# Altium footprint library panasonic.PcbLib: 22 footprints (part 2 of 2)
Each footprint in its own frame and in the unit in brackets; x right, y up, seen from the top. Pads: shape width x height; smd on the part's side, far side on the other; paste and mask are expansions set on the pad; w line width, h text height; cw(c..) or ccw(c..) is an arc to the next point about the centre after c.
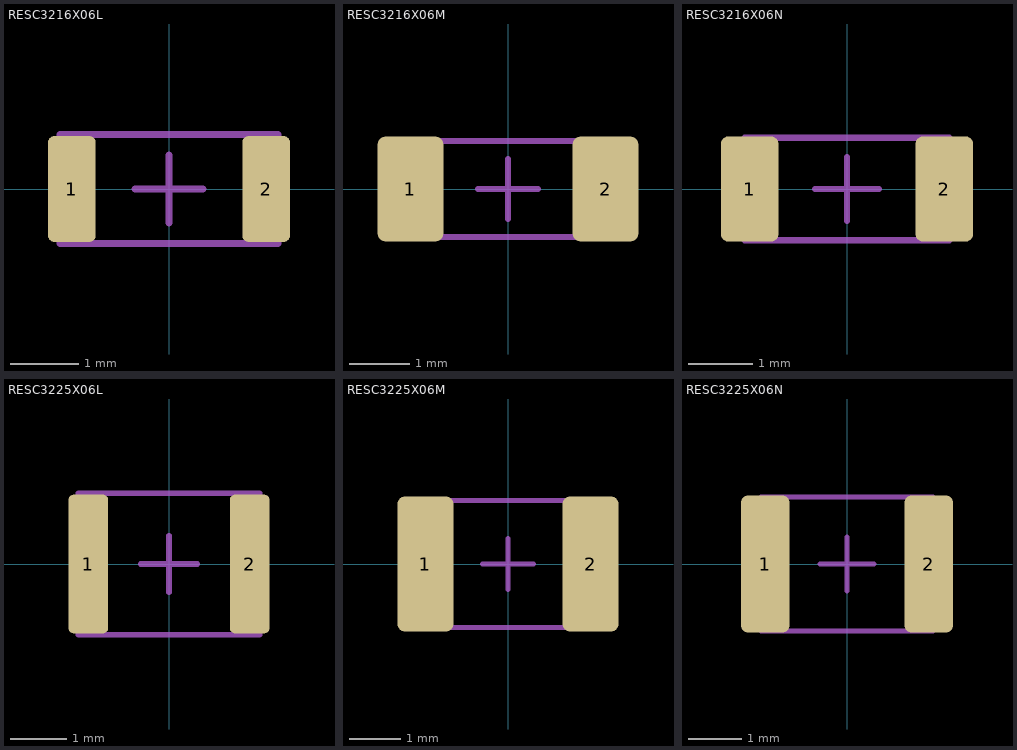
[diagram p1: the footprints below, top view; thin cyan lines are the x and y axes]

## RESC3216X06L [mm] "Chip Resistor, 2-Leads, Body 3.20x1.60mm, IPC High Density"
height 0.6
pads (2):
  rrect25% 0.7x1.55 smd mask+0.05: 1(-1.425,0) 2(1.425,0)
Mechanical 15:
  lines w0.1: -0.5,0 0.5,0 ; 0,-0.5 0,0.5 ; -1.6,-0.8 1.6,-0.8 1.6,0.8 -1.6,0.8 -1.6,-0.8
3D body "RESC3216X06L.step": height 0.6, standoff 0, extent -1.6,-0.8 1.6,0.8

## RESC3216X06M [mm] "Chip Resistor, 2-Leads, Body 3.20x1.60mm, IPC Low Density"
height 0.6
pads (2):
  rrect25% 1.1x1.75 smd mask+0.05: 1(-1.625,0) 2(1.625,0)
Mechanical 15:
  lines w0.1: -0.5,0 0.5,0 ; 0,-0.5 0,0.5 ; -1.6,-0.8 1.6,-0.8 1.6,0.8 -1.6,0.8 -1.6,-0.8
3D body "RESC3216X06M.step": height 0.6, standoff 0, extent -1.6,-0.8 1.6,0.8

## RESC3216X06N [mm] "Chip Resistor, 2-Leads, Body 3.20x1.60mm, IPC Medium Density"
height 0.6
pads (2):
  rrect25% 0.9x1.65 smd mask+0.05: 1(-1.525,0) 2(1.525,0)
Mechanical 15:
  lines w0.1: -0.5,0 0.5,0 ; 0,-0.5 0,0.5 ; -1.6,-0.8 1.6,-0.8 1.6,0.8 -1.6,0.8 -1.6,-0.8
3D body "RESC3216X06N.step": height 0.6, standoff 0, extent -1.6,-0.8 1.6,0.8

## RESC3225X06L [mm] "Chip Resistor, 2-Leads, Body 3.20x2.50mm, IPC High Density"
height 0.6
pads (2):
  rrect25% 0.7x2.45 smd mask+0.05: 1(-1.425,0) 2(1.425,0)
Mechanical 15:
  lines w0.1: -0.5,0 0.5,0 ; 0,-0.5 0,0.5 ; -1.6,-1.25 -1.6,1.25 1.6,1.25 1.6,-1.25 -1.6,-1.25
3D body "RESC3225X06L.step": height 0.6, standoff 0, extent -1.6,-1.25 1.6,1.25

## RESC3225X06M [mm] "Chip Resistor, 2-Leads, Body 3.20x2.50mm, IPC Low Density"
height 0.6
pads (2):
  rrect25% 1.1x2.65 smd mask+0.05: 1(-1.625,0) 2(1.625,0)
Mechanical 15:
  lines w0.1: -0.5,0 0.5,0 ; 0,-0.5 0,0.5 ; -1.6,-1.25 -1.6,1.25 1.6,1.25 1.6,-1.25 -1.6,-1.25
3D body "RESC3225X06M.step": height 0.6, standoff 0, extent -1.6,-1.25 1.6,1.25

## RESC3225X06N [mm] "Chip Resistor, 2-Leads, Body 3.20x2.50mm, IPC Medium Density"
height 0.6
pads (2):
  rrect25% 0.9x2.55 smd mask+0.05: 1(-1.525,0) 2(1.525,0)
Mechanical 15:
  lines w0.1: -0.5,0 0.5,0 ; 0,-0.5 0,0.5 ; -1.6,-1.25 -1.6,1.25 1.6,1.25 1.6,-1.25 -1.6,-1.25
3D body "RESC3225X06N.step": height 0.6, standoff 0, extent -1.6,-1.25 1.6,1.25